# EAGLE library part LA-401*N (library led-7-segment_2)
Single Digit LED Numeric Display (cathode common) Source: ROHM .. la-1401dn.pdf
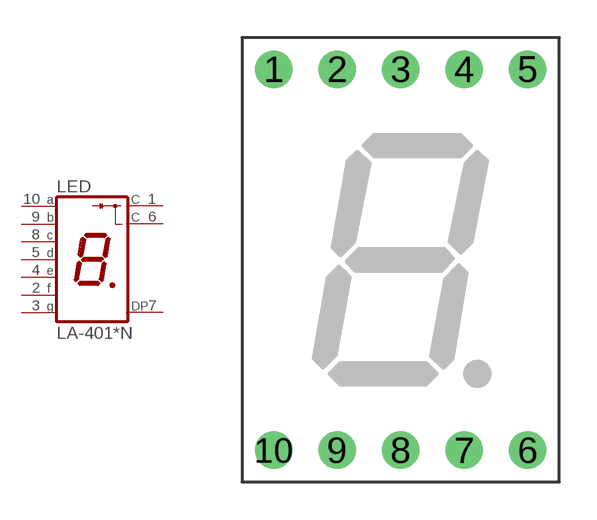
[diagram p1: symbol with the pads of LA-401; footprint LA-401]

Designator prefix LED

## LA-401AN, LA-401BN, LA-401EN, LA-401MN, LA-401VN, LA-401XN  [LA-401]
1  C  pas
2  F  pas
3  G  pas
4  E  pas
5  D  pas
6  C  pas
7  DP  pas
8  C  pas
9  B  pas
10  A  pas

## Footprint LA-401 (pad centres in mm)
Single Digit LED Numeric Display 10.16 mm Source: ROHM .. la-401dn.pdf
drill 0.9 pad 1.5: 1 -2.54,7.62; 2 0,7.62; 3 2.54,7.62; 4 5.08,7.62; 5 7.62,7.62; 6 7.62,-7.62; 7 5.08,-7.62; 8 2.54,-7.62; 9 0,-7.62; 10 -2.54,-7.62